# Altium schematic symbol library vertigo.SchLib: 40 symbols
Pins are listed as number, name and electrical type; pins without a type are passive.

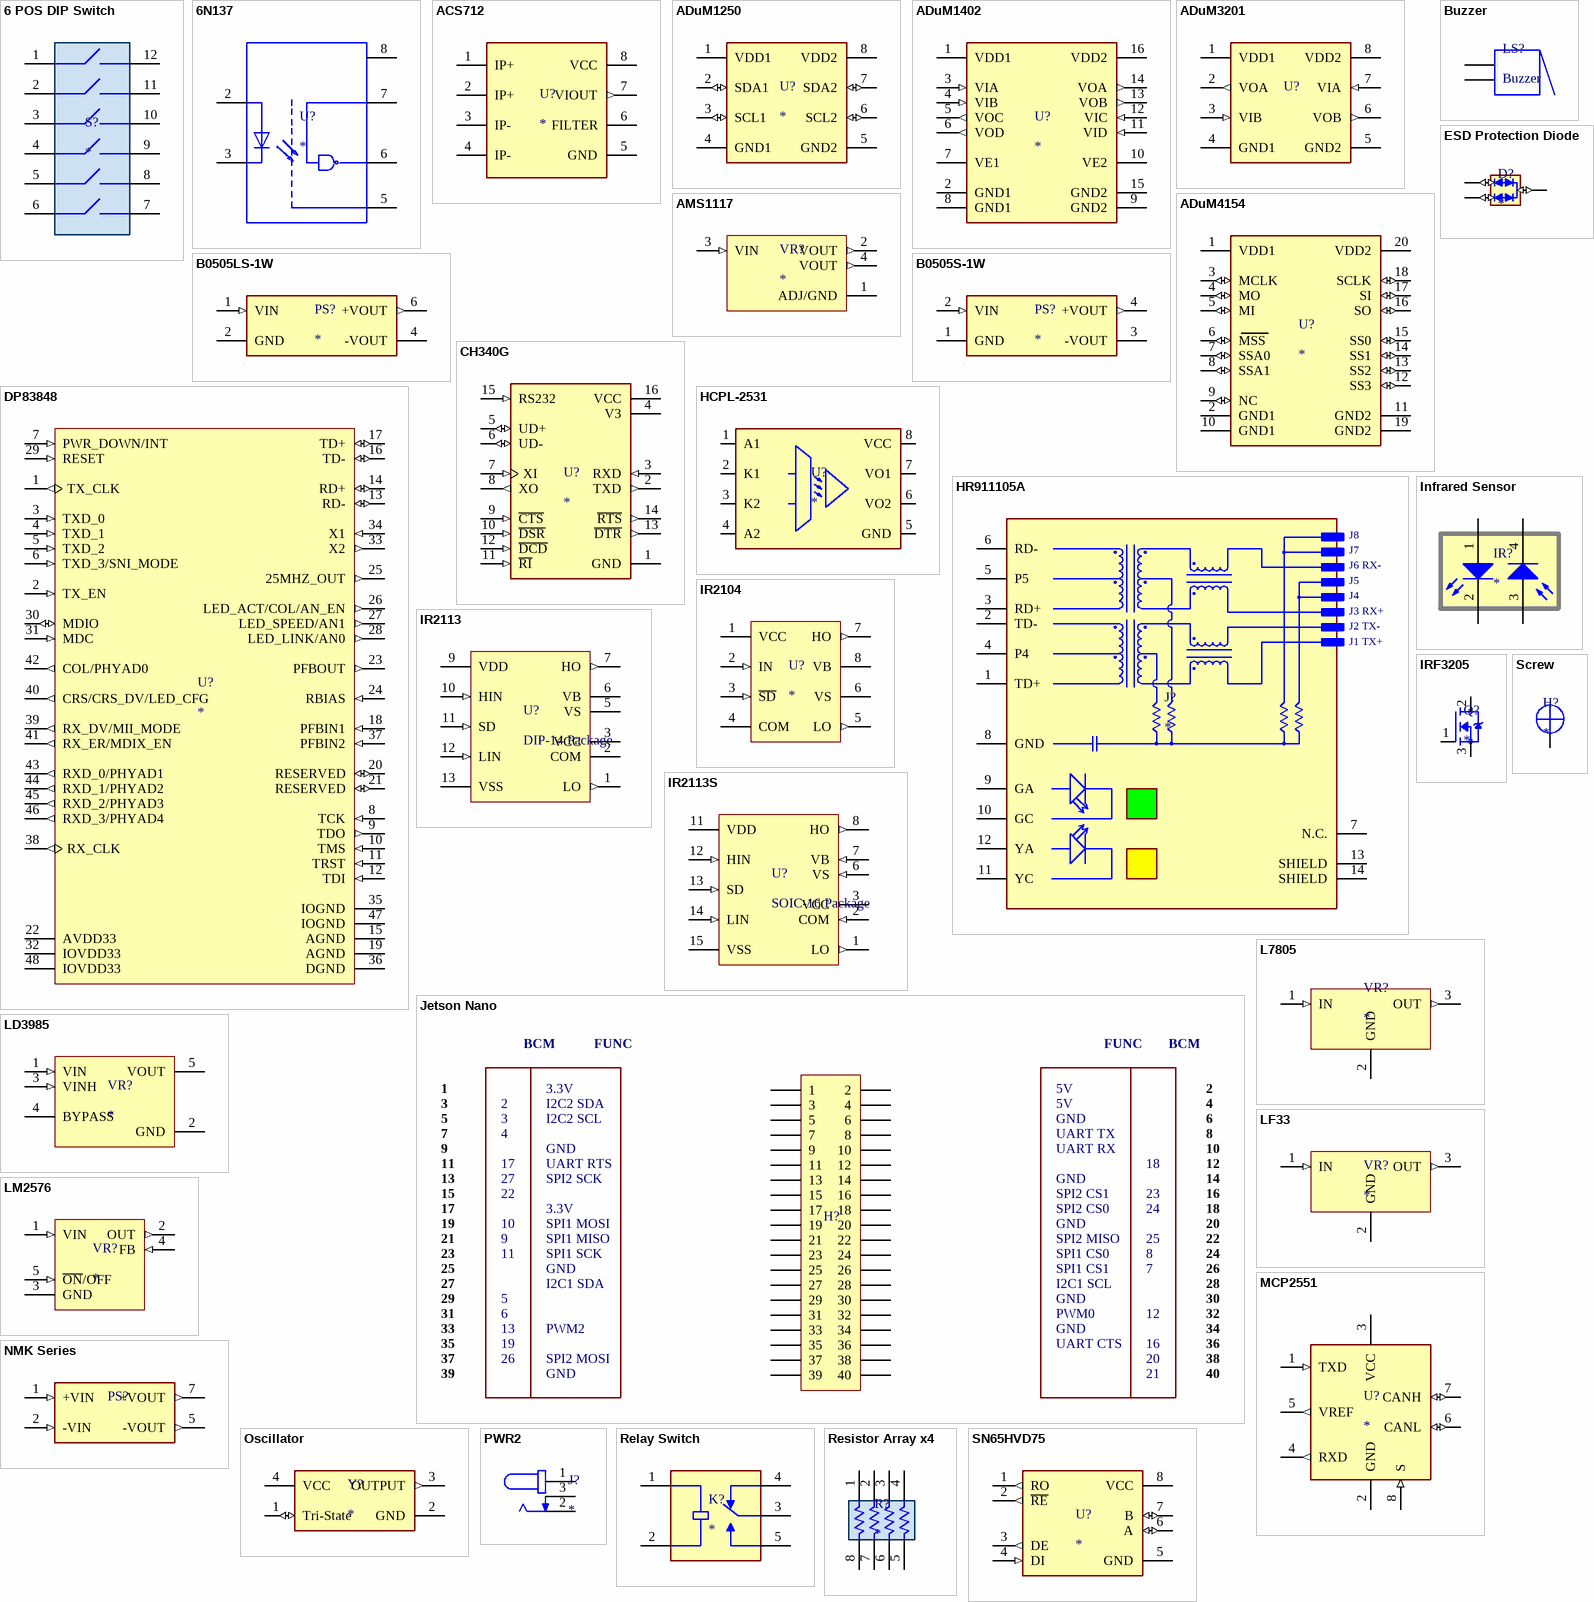
[diagram p0: symbols 6 POS DIP Switch to SN65HVD75]

## 6 POS DIP Switch
designator S?
6 POS DIP Switch
footprint 6 POS DIP Switch 2.54mm
footprint 6 DIP Switch 1.27mm (1.27mm Surface Mount DIP Switch)
pins: 1, 2, 3, 4, 5, 6, 7, 8, 9, 10, 11, 12

## 6N137
designator U?
High-Speed Logic Gate Optocoupler
footprint DIP-8 (DIP-8 Package)
footprint DIP-8 GW (Lead Bending Type)
pins: 2 A, 3 C, 5 GND (power), 6 VO, 7 VE, 8 VCC (power)

## ACS712
designator U?
Fully Integrated, Hall Effect-Based Linear Current Sensor IC
footprint SO-8 (SO-8 Package)
pins: 1 IP+ (power), 2 IP+ (power), 3 IP- (power), 4 IP- (power), 5 GND (power), 6 FILTER (power), 7 VIOUT (out), 8 VCC (power)

## ADuM1250
designator U?
Hot Swappable, Dual I2C Isolators
footprint SOIC-8 (SOIC-8 Package)
pins: 1 VDD1 (power), 2 SDA1 (io), 3 SCL1 (io), 4 GND1 (power), 5 GND2 (power), 6 SCL2 (io), 7 SDA2 (io), 8 VDD2 (power)

## ADuM1402
designator U?
Quad-Channel Digital Isolators
footprint SOIC-16 (SOIC-16 Package)
pins: 1 VDD1 (power), 2 GND1 (power), 3 VIA (in), 4 VIB (in), 5 VOC (out), 6 VOD (out), 7 VE1, 8 GND1 (power), 9 GND2 (power), 10 VE2, 11 VID (in), 12 VIC (in), 13 VOB (out), 14 VOA (out), 15 GND2 (power), 16 VDD2 (power)

## ADuM3201
designator U?
Dual-Channel, Digital Isolators, Enhanced System-Level ESD Reliability
footprint SOIC-8 (SOIC-8 Package)
pins: 1 VDD1 (power), 2 VOA (out), 3 VIB (in), 4 GND1 (power), 5 GND2 (power), 6 VOB (out), 7 VIA (in), 8 VDD2 (power)

## ADuM4154
designator U?
Multiple Slave, Digital Isolator for SPI
footprint SOIC-20 (SOIC-20 Package)
pins: 1 VDD1 (power), 2 GND1 (power), 3 MCLK (io), 4 MO (io), 5 MI (io), 6 MSS (io), 7 SSA0 (io), 8 SSA1 (io), 9 NC (io), 10 GND1 (power), 11 GND2 (power), 12 SS3 (io), 13 SS2 (io), 14 SS1 (io), 15 SS0 (io), 16 SO (io), 17 SI (io), 18 SCLK (io), 19 GND2 (power), 20 VDD2 (power)

## AMS1117
designator VR?
AMS1117 is a low voltage dropout three-terminal regulators
footprint SOT-223 (SOT-223 Package)
pins: 1 ADJ/GND (power), 2 VOUT (out), 3 VIN (in), 4 VOUT (out)

## B0505LS-1W
designator PS?
Compact, isolated DC-DC Converter module
footprint B0505LS-1W
pins: 1 VIN (in), 2 GND (power), 4 -VOUT, 6 +VOUT (out)

## B0505S-1W
designator PS?
Compact, isolated DC-DC Converter module
footprint B0505S-1W (Isolated DC-DC converter)
pins: 1 GND (power), 2 VIN (in), 3 -VOUT, 4 +VOUT (out)

## Buzzer
designator LS?
footprint Buzzer (Diameter 12mm)
pins: 1, 2

## CH340G
designator U?
CH340 is a USB bus convert chip and it can realize USB convert to serial interface
footprint SO-16 (SO-16 Package)
pins: 1 GND (power), 2 TXD (out), 3 RXD (in), 4 V3 (power), 5 UD+ (io), 6 UD- (io), 7 XI (in), 8 XO (out), 9 ~{CTS} (in), 10 ~{DSR} (in), 11 ~{RI} (in), 12 ~{DCD} (in), 13 ~{DTR} (out), 14 ~{RTS} (out), 15 RS232 (in), 16 VCC (power)

## DP83848
designator U?
DP83848K Ethernet Interface Evaluation Board
footprint LQFP-48 (LQFP-48 Package)
pins: 1 TX_CLK (out), 2 TX_EN (in), 3 TXD_0 (in), 4 TXD_1 (in), 5 TXD_2 (in), 6 TXD_3/SNI_MODE (in), 7 PWR_DOWN/INT (in), 8 TCK (in), 9 TDO (out), 10 TMS (in), 11 TRST (in), 12 TDI (in), 13 RD- (io), 14 RD+ (io), 15 AGND (power), 16 TD- (io), 17 TD+ (io), 18 PFBIN1 (in), 19 AGND (power), 20 RESERVED (io), 21 RESERVED (io), 22 AVDD33 (power), 23 PFBOUT (out), 24 RBIAS (in), 25 25MHZ_OUT (out), 26 LED_ACT/COL/AN_EN (out), 27 LED_SPEED/AN1 (out), 28 LED_LINK/AN0 (out), 29 RESET (in), 30 MDIO (io), 31 MDC (in), 32 IOVDD33 (power), 33 X2 (out), 34 X1 (in), 35 IOGND (power), 36 DGND (power), 37 PFBIN2 (in), 38 RX_CLK (out), 39 RX_DV/MII_MODE (out), 40 CRS/CRS_DV/LED_CFG (out), 41 RX_ER/MDIX_EN (out), 42 COL/PHYAD0 (out), 43 RXD_0/PHYAD1 (out), 44 RXD_1/PHYAD2 (out), 45 RXD_2/PHYAD3 (out), 46 RXD_3/PHYAD4 (out), 47 IOGND (power), 48 IOVDD33 (power)

## ESD Protection Diode
designator D?
2 Channel ESD Protector
footprint SOT-23 (SOT-23 Package)
pins: 1 GND (io), 2 CANH (io), 3 CANL (io)

## HCPL-2531
designator U?
optocouplers consist of an AlGaAs LED optically coupled to a / high speed photodetector transistor.
footprint DIP-8 (DIP-8 Package)
footprint DIP-8 GW (Lead Bending Type)
pins: 1 A1 (power), 2 K1 (power), 3 K2 (power), 4 A2 (power), 5 GND (power), 6 VO2 (power), 7 VO1 (power), 8 VCC (power)

## HR911105A
designator J?
Single Port RJ45 Connector
footprint HR911105A (Single Port RJ45 Connector)
pins: 1 TD+, 2 TD-, 3 RD+, 4 P4, 5 P5, 6 RD-, 7 N.C. (power), 8 GND (power), 9 GA, 10 GC, 11 YC, 12 YA, 13 SHIELD, 14 SHIELD
text: J8; J7; J6 RX-; J5; J4; J3 RX+; J2 TX-; J1 TX+

## Infrared Sensor
designator IR?
footprint IR Sensor
pins: 1 A, 2 K, 3 A, 4 K

## IR2104
designator U?
The IR2104(S) are high voltage, high speed power / MOSFET and IGBT drivers with dependent high and low / side referenced output channels
footprint SOIC-8 (SOIC-8 Package)
footprint DIP-8 (DIP-8 Package)
pins: 1 VCC (power), 2 IN (in), 3 ~{SD} (in), 4 COM, 5 LO (out), 6 VS (power), 7 HO (out), 8 VB (power)

## IR2113
designator U?, comment DIP-14 Package
High voltage, high speed power MOSFET and / IGBT drivers
footprint DIP-14 (DIP-14 Package)
pins: 1 LO (out), 2 COM, 3 VCC (power), 5 VS (power), 6 VB (power), 7 HO (out), 9 VDD (power), 10 HIN (in), 11 SD (in), 12 LIN (in), 13 VSS (power)

## IR2113S
designator U?, comment SOIC-16 Package
High voltage, high speed power MOSFET and / IGBT drivers
footprint SOIC-16 (SOIC-16 Package)
pins: 1 LO (out), 2 COM (in), 3 VCC (power), 6 VS (in), 7 VB (in), 8 HO (out), 11 VDD (power), 12 HIN (in), 13 SD (in), 14 LIN (in), 15 VSS

## IRF3205
designator Q?
Power MOSFETs from International / Rectifier utilize advanced processing techniques to achieve / extremely low on-resistance per silicon area
footprint TO-220 (TO-220 Package)
pins: 1 G, 2 D, 3 S

## Jetson Nano
designator H?
footprint Jetson Nano Header 40-Pin (Jetson Nano Header Pinout)
pins: 1, 2, 3, 4, 5, 6, 7, 8, 9, 10, 11, 12, 13, 14, 15, 16, 17, 18, 19, 20, 21, 22, 23, 24, 25, 26, 27, 28, 29, 30, 31, 32, 33, 34, 35, 36, 37, 38, 39, 40
text: BCM; FUNC; 3.3V; 5V; I2C2 SDA; I2C2 SCL; GND; UART TX; UART RX; UART RTS; SPI2 SCK; SPI2 CS1; SPI2 CS0; SPI1 MOSI; SPI1 MISO; SPI2 MISO; SPI1 SCK; SPI1 CS0; SPI1 CS1; I2C1 SDA; I2C1 SCL; PWM0; PWM2; UART CTS; SPI2 MOSI

## L7805
designator VR?
Positive voltage regulator ICs
footprint DPAK TO-252 (TO-252 Package)
pins: 1 IN (in), 2 GND, 3 OUT (out)

## LD3985
designator VR?
Ultra low drop and low noise BiCMOS voltage regulators
footprint SOT23-5 (SOT23-5L Package)
pins: 1 VIN (in), 2 GND (power), 3 VINH (in), 4 BYPASS, 5 VOUT (power)

## LF33
designator VR?
Very low drop voltage regulator with inhibit function
footprint DPAK TO-252 (TO-252 Package)
pins: 1 IN (in), 2 GND, 3 OUT (out)

## LM2576
designator VR?
The LM2576 series of regulators are monolithic integrated / circuits that provide all the active functions for a step-down / (buck) switching regulator, capable of driving 3A load with / excellent line and load regulation.
footprint DDPAK TO-263 (TO-263 Package)
pins: 1 VIN (in), 2 OUT (out), 3 GND (power), 4 FB (in), 5 ~{ON}/OFF (in)

## MCP2551
designator U?
High speed CAN transceiver
footprint SO-8 (SO-8 Package)
pins: 1 TXD (in), 2 GND (power), 3 VCC (power), 4 RXD (out), 5 VREF (out), 6 CANL (io), 7 CANH (io), 8 S (in)

## NMK Series
designator PS?
3kVDC Isolated 2W Single & Dual Output DC/DC Converters
footprint NMK Series (DC/DC Converter)
pins: 1 +VIN (in), 2 -VIN (in), 5 -VOUT (out), 7 +VOUT (out)

## Oscillator
designator Y?
Clock Oscillator
footprint Oscillator 5032 (5X3.2mm)
pins: 1 Tri-State (io), 2 GND (power), 3 OUTPUT (out), 4 VCC (power)

## PWR2
designator J?
2mm DC Power Connector
footprint PJ-002A (DC Power Connector)
pins: 1, 2, 3

## Relay Switch
designator K?
footprint Relay Mini
pins: 1 COIL1, 2 COIL2, 3 COM, 4 NC, 5 NO

## Resistor Array x4
designator R?
Array Resistor X4
footprint Resistor Array 4 Pin 0603
pins: 1, 2, 3, 4, 5, 6, 7, 8

## Screw
designator H?
PCB MOUNTING SCREW
footprint 3mm Screw Hole - 1 (3mm Screw Hole)
footprint 3mm Screw Hole - 2 (3mm Screw Hole)
pins: S

## SN65HVD75
designator U?
3.3V-Supply RS-485 with IEC ESD Protection
footprint SOIC-8 (SOIC-8 Package)
pins: 1 RO (out), 2 ~{RE} (out), 3 DE (out), 4 DI (in), 5 GND (power), 6 A (io), 7 B (io), 8 VCC (power)

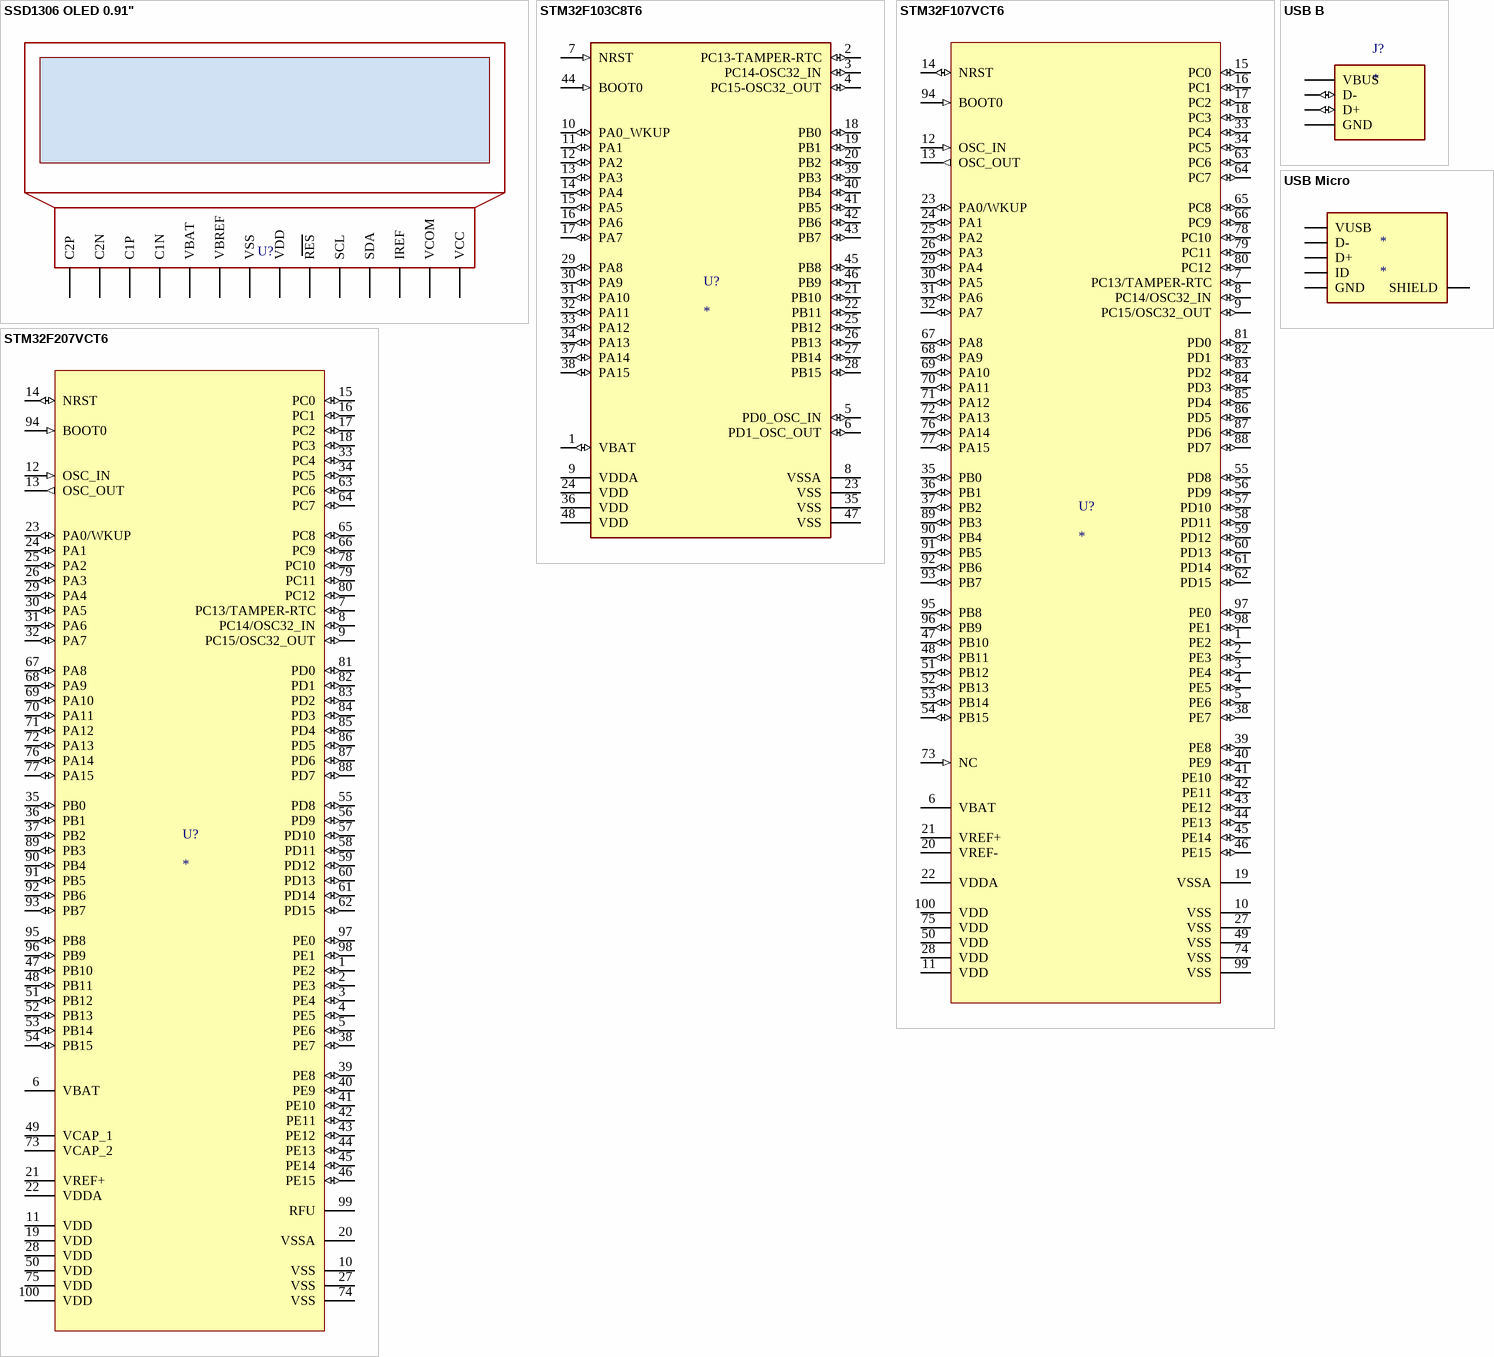
[diagram p1: symbols SSD1306 OLED 0.91" to USB Micro]

## SSD1306 OLED 0.91"
designator U?
This is a general OLED display Module, 0.91inch diagonal, 128x32 pixels, with embedded controller, communicating via I2C interface.
footprint SSD1306 OLED 0.91"
pins: 1 C2P, 2 C2N, 3 C1P, 4 C1N, 5 VBAT, 6 VBREF, 7 VSS, 8 VDD, 9 RES, 10 SCL, 11 SDA, 12 IREF, 13 VCOM, 14 VCC

## STM32F103C8T6
designator U?
Medium-density performance line Arm®-based 32-bit MCU with 64 or 128 KB Flash, USB, CAN, 7 timers, 2 ADCs, 9 com. interfaces
footprint LQFP-48 (LQFP-48 Package)
pins: 1 VBAT (io), 2 PC13-TAMPER-RTC (io), 3 PC14-OSC32_IN (io), 4 PC15-OSC32_OUT (io), 5 PD0_OSC_IN (io), 6 PD1_OSC_OUT (io), 7 NRST (in), 8 VSSA (power), 9 VDDA (power), 10 PA0_WKUP (io), 11 PA1 (io), 12 PA2 (io), 13 PA3 (io), 14 PA4 (io), 15 PA5 (io), 16 PA6 (io), 17 PA7 (io), 18 PB0 (io), 19 PB1 (io), 20 PB2 (io), 21 PB10 (io), 22 PB11 (io), 23 VSS (power), 24 VDD (power), 25 PB12 (io), 26 PB13 (io), 27 PB14 (io), 28 PB15 (io), 29 PA8 (io), 30 PA9 (io), 31 PA10 (io), 32 PA11 (io), 33 PA12 (io), 34 PA13 (io), 35 VSS (power), 36 VDD (power), 37 PA14 (io), 38 PA15 (io), 39 PB3 (io), 40 PB4 (io), 41 PB5 (io), 42 PB6 (io), 43 PB7 (io), 44 BOOT0 (in), 45 PB8 (io), 46 PB9 (io), 47 VSS (power), 48 VDD (power)

## STM32F107VCT6
designator U?
ARM Cortex-M STM32F107VCT6 Microcontroller IC 32-Bit 72MHz
footprint LQFP-100 (LQFP-100 Package)
pins: 1 PE2 (io), 2 PE3 (io), 3 PE4 (io), 4 PE5 (io), 5 PE6 (io), 6 VBAT (power), 7 PC13/TAMPER-RTC (io), 8 PC14/OSC32_IN (io), 9 PC15/OSC32_OUT (io), 10 VSS (power), 11 VDD (power), 12 OSC_IN (in), 13 OSC_OUT (out), 14 NRST (io), 15 PC0 (io), 16 PC1 (io), 17 PC2 (io), 18 PC3 (io), 19 VSSA (power), 20 VREF- (power), 21 VREF+ (power), 22 VDDA (power), 23 PA0/WKUP (io), 24 PA1 (io), 25 PA2 (io), 26 PA3 (io), 27 VSS (power), 28 VDD (power), 29 PA4 (io), 30 PA5 (io), 31 PA6 (io), 32 PA7 (io), 33 PC4 (io), 34 PC5 (io), 35 PB0 (io), 36 PB1 (io), 37 PB2 (io), 38 PE7 (io), 39 PE8 (io), 40 PE9 (io), 41 PE10 (io), 42 PE11 (io), 43 PE12 (io), 44 PE13 (io), 45 PE14 (io), 46 PE15 (io), 47 PB10 (io), 48 PB11 (io), 49 VSS (power), 50 VDD (power), 51 PB12 (io), 52 PB13 (io), 53 PB14 (io), 54 PB15 (io), 55 PD8 (io), 56 PD9 (io), 57 PD10 (io), 58 PD11 (io), 59 PD12 (io), 60 PD13 (io), 61 PD14 (io), 62 PD15 (io), 63 PC6 (io), 64 PC7 (io), 65 PC8 (io), 66 PC9 (io), 67 PA8 (io), 68 PA9 (io), 69 PA10 (io), 70 PA11 (io), 71 PA12 (io), 72 PA13 (io), 73 NC (in), 74 VSS (power), 75 VDD (power), 76 PA14 (io), 77 PA15 (io), 78 PC10 (io), 79 PC11 (io), 80 PC12 (io), 81 PD0 (io), 82 PD1 (io), 83 PD2 (io), 84 PD3 (io), 85 PD4 (io), 86 PD5 (io), 87 PD6 (io), 88 PD7 (io), 89 PB3 (io), 90 PB4 (io), 91 PB5 (io), 92 PB6 (io), 93 PB7 (io), 94 BOOT0 (in), 95 PB8 (io), 96 PB9 (io), 97 PE0 (io), 98 PE1 (io), 99 VSS (power), 100 VDD (power)

## STM32F207VCT6
designator U?
ARM Cortex-M STM32F207VCT6 Microcontroller IC 32-Bit 72MHz
footprint LQFP-100 (LQFP-100 Package)
pins: 1 PE2 (io), 2 PE3 (io), 3 PE4 (io), 4 PE5 (io), 5 PE6 (io), 6 VBAT (power), 7 PC13/TAMPER-RTC (io), 8 PC14/OSC32_IN (io), 9 PC15/OSC32_OUT (io), 10 VSS (power), 11 VDD (power), 12 OSC_IN (in), 13 OSC_OUT (out), 14 NRST (io), 15 PC0 (io), 16 PC1 (io), 17 PC2 (io), 18 PC3 (io), 19 VDD (power), 20 VSSA (power), 21 VREF+ (power), 22 VDDA (power), 23 PA0/WKUP (io), 24 PA1 (io), 25 PA2 (io), 26 PA3 (io), 27 VSS (power), 28 VDD (power), 29 PA4 (io), 30 PA5 (io), 31 PA6 (io), 32 PA7 (io), 33 PC4 (io), 34 PC5 (io), 35 PB0 (io), 36 PB1 (io), 37 PB2 (io), 38 PE7 (io), 39 PE8 (io), 40 PE9 (io), 41 PE10 (io), 42 PE11 (io), 43 PE12 (io), 44 PE13 (io), 45 PE14 (io), 46 PE15 (io), 47 PB10 (io), 48 PB11 (io), 49 VCAP_1 (power), 50 VDD (power), 51 PB12 (io), 52 PB13 (io), 53 PB14 (io), 54 PB15 (io), 55 PD8 (io), 56 PD9 (io), 57 PD10 (io), 58 PD11 (io), 59 PD12 (io), 60 PD13 (io), 61 PD14 (io), 62 PD15 (io), 63 PC6 (io), 64 PC7 (io), 65 PC8 (io), 66 PC9 (io), 67 PA8 (io), 68 PA9 (io), 69 PA10 (io), 70 PA11 (io), 71 PA12 (io), 72 PA13 (io), 73 VCAP_2 (power), 74 VSS (power), 75 VDD (power), 76 PA14 (io), 77 PA15 (io), 78 PC10 (io), 79 PC11 (io), 80 PC12 (io), 81 PD0 (io), 82 PD1 (io), 83 PD2 (io), 84 PD3 (io), 85 PD4 (io), 86 PD5 (io), 87 PD6 (io), 88 PD7 (io), 89 PB3 (io), 90 PB4 (io), 91 PB5 (io), 92 PB6 (io), 93 PB7 (io), 94 BOOT0 (in), 95 PB8 (io), 96 PB9 (io), 97 PE0 (io), 98 PE1 (io), 99 RFU (power), 100 VDD (power)

## USB B
designator J?
footprint USB-B (Type B)
pins: 1 VBUS (power), 2 D- (io), 3 D+ (io), 4 GND (power)

## USB Micro
designator *
footprint USB Micro
pins: 1 VUSB, 2 D-, 3 D+, 4 ID, 5 GND, 6 SHIELD